# Altium footprint library PcbLib2.PcbLib: 1 footprints
Each footprint in its own frame and in the unit in brackets; x right, y up, seen from the top. Pads: shape width x height; smd on the part's side, far side on the other; paste and mask are expansions set on the pad; w line width, h text height; cw(c..) or ccw(c..) is an arc to the next point about the centre after c.
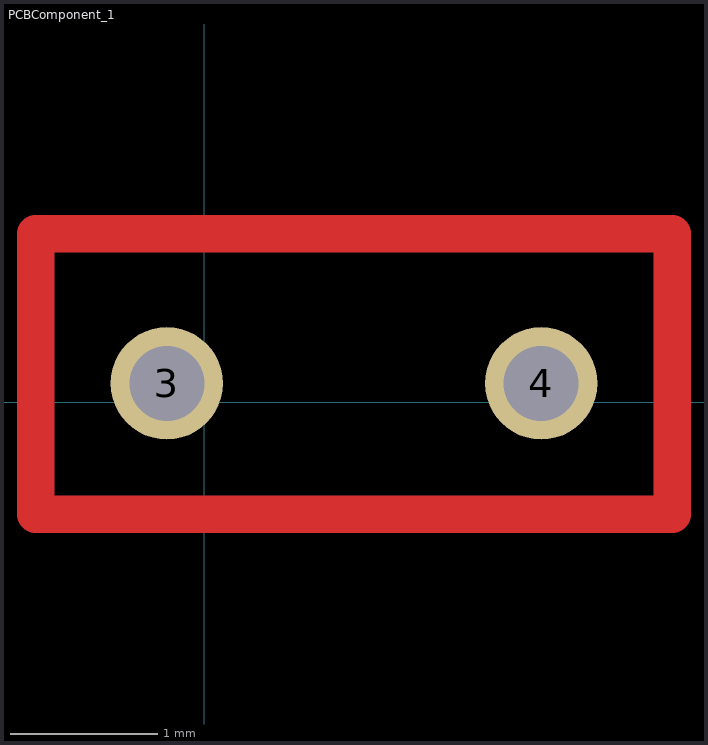
[diagram p0: the footprint, top view; thin cyan lines are the x and y axes]

## PCBComponent_1 [mil]
pads (2):
  round 30 hole 20: 3(-10,5) 4(90,5)
Top Layer:
  lines w10: -45,-30 125,-30 125,45 -45,45 -45,-30